# EAGLE library part CONN-10 (library Hoektronics)
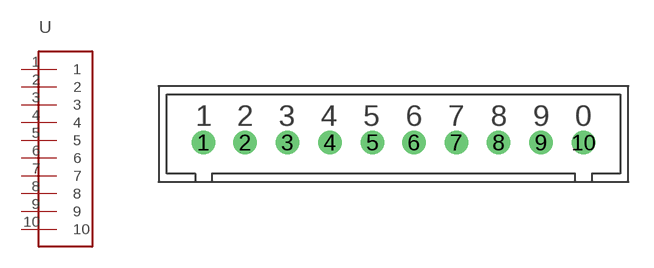
[diagram p19: symbol with the pads of XH-10; footprint XH-10]

Designator prefix -

## CONN-10  [XH-10]
1  1
2  2
3  3
4  4
5  5
6  6
7  7
8  8
9  9
10  10

## Footprint XH-10 (pad centres in mm)
drill 0.9: 1 -6.31,0; 2 -3.81,0; 3 -1.27,0; 4 1.27,0; 5 3.81,0; 6 6.31,0; 7 8.85,0; 8 11.39,0; 9 13.93,0; 10 16.47,0